# EAGLE library part ADNS-6010 (library robotter)
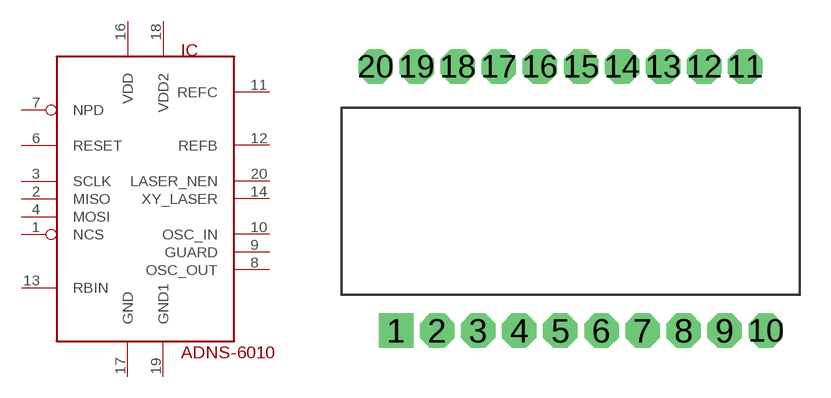
[diagram p9: symbol with the pads of ADNS-6010; footprint ADNS-6010]

Designator prefix IC

## ADNS-6010  [ADNS-6010]
1  NCS  in
2  MISO  out
3  SCLK  in
4  MOSI  in
6  RESET
7  NPD
8  OSC_OUT
9  GUARD
10  OSC_IN
11  REFC
12  REFB
13  RBIN
14  XY_LASER
16  VDD  pwr
17  GND  pwr
18  VDD2  pwr
19  GND1  pwr
20  LASER_NEN  in

## Footprint ADNS-6010 (pad centres in mm)
drill 0.9 pad 1.676 square: 1 -18.49,-6.3
drill 0.9 pad 1.676 octagon: 2 -16.49,-6.3; 3 -14.49,-6.3; 4 -12.49,-6.3; 5 -10.49,-6.3; 6 -8.49,-6.3; 7 -6.49,-6.3; 8 -4.49,-6.3; 9 -2.49,-6.3; 10 -0.49,-6.3; 11 -1.49,6.55; 12 -3.49,6.55; 13 -5.49,6.55; 14 -7.49,6.55; 15 -9.49,6.55; 16 -11.49,6.55; 17 -13.49,6.55; 18 -15.49,6.55; 19 -17.49,6.55; 20 -19.49,6.55